# EAGLE library part CA3081* (library transistor-npn)
TRANSISTOR ARRAY general purpose, high current common emitter
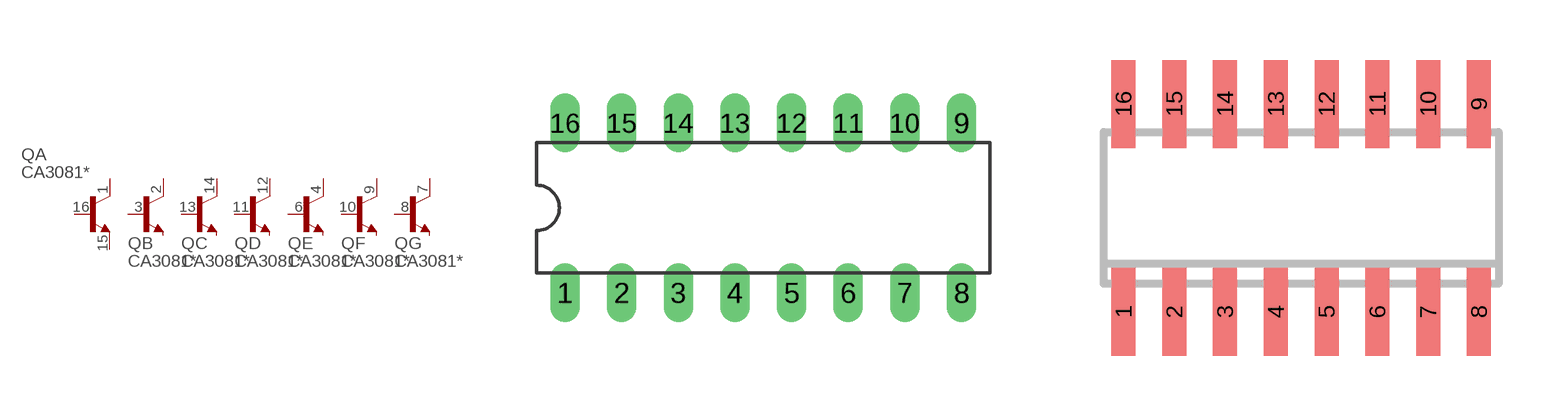
[diagram p1: symbol with the pads of DIL16; footprints DIL16, SO16]

Designator prefix Q; gates A=NPN-PAD B=NPN-C C=NPN-C D=NPN-C E=NPN-C F=NPN-C G=NPN-C

## CA3081  [DIL16]
1  A:C  pas
2  B:C  pas
3  B:B  pas
4  E:C  pas
6  E:B  pas
7  G:C  pas
8  G:B  pas
9  F:C  pas
10  F:B  pas
11  D:B  pas
12  D:C  pas
13  C:B  pas
14  C:C  pas
15  A:E  pas
16  A:B  pas

## CA3081M  [SO16]
Pads as for DIL16

## Footprint DIL16 (pad centres in mm)
Dual In Line Package
drill 0.813 long: 1 -8.89,-3.81; 2 -6.35,-3.81; 3 -3.81,-3.81; 4 -1.27,-3.81; 5 1.27,-3.81; 6 3.81,-3.81; 7 6.35,-3.81; 8 8.89,-3.81; 9 8.89,3.81; 10 6.35,3.81; 11 3.81,3.81; 12 1.27,3.81; 13 -1.27,3.81; 14 -3.81,3.81; 15 -6.35,3.81; 16 -8.89,3.81

## Footprint SO16 (pad centres in mm)
SMALL OUTLINE INTEGRATED CIRCUIT body 3.9 mm/JEDEC MS-012AC
smd 0.6 x 2.2: 1 -4.445,-2.6; 2 -3.175,-2.6; 3 -1.905,-2.6; 4 -0.635,-2.6; 5 0.635,-2.6; 6 1.905,-2.6; 7 3.175,-2.6; 8 4.445,-2.6; 9 4.445,2.6; 10 3.175,2.6; 11 1.905,2.6; 12 0.635,2.6; 13 -0.635,2.6; 14 -1.905,2.6; 15 -3.175,2.6; 16 -4.445,2.6